# Altium schematic symbol library Res&Caps.SchLib: 97 symbols
Pins are listed as number, name and electrical type; pins without a type are passive.

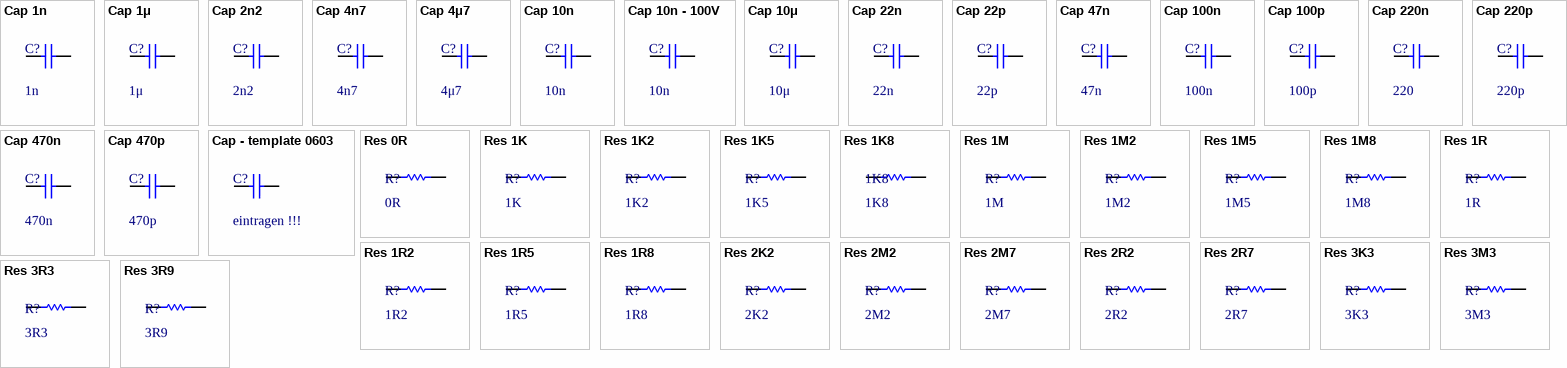
[diagram p0: symbols Cap 1n to Res 3R9]

## Cap 1n
designator C?, comment 1n
Keramikvielschichtkondensator, SMD, Baureihe MC, ± 10%; Manufacturer: TDK; Voltage Rating: 50V; OC_MOUSER: CGA3E2X7R1H102K080AA; Value: 1n; PackageReference: 0603; Tolerance: ± 10%
footprint CAPC0603(1608)55_N (Chip Capacitor, Body 1.6x0.8mm, Height 0.55mm, IPC Medium Density)
pins: 1, 2
1 alternate drawing of the same symbol

## Cap 1μ
designator C?, comment 1μ
Keramikvielschichtkondensator, SMD, Baureihe MC, ± 10%; Manufacturer: TDK; Voltage Rating: 50V; OC_MOUSER: CGA3E3X5R1H105K080AB; Value: 1μ; PackageReference: 0603; Tolerance: ± 10%
footprint CAPC0603(1608)55_N (Chip Capacitor, Body 1.6x0.8mm, Height 0.55mm, IPC Medium Density)
pins: 1, 2
1 alternate drawing of the same symbol

## Cap 2n2
designator C?, comment 2n2
Keramikvielschichtkondensator, SMD, Baureihe MC, ± 5%; Manufacturer: TDK; Voltage Rating: 50V; OC_MOUSER: CGA3E2C0G1H222J080AA; Value: 2n2; PackageReference: 0603; Tolerance: ± 5%
footprint CAPC0603(1608)55_N (Chip Capacitor, Body 1.6x0.8mm, Height 0.55mm, IPC Medium Density)
pins: 1, 2
1 alternate drawing of the same symbol

## Cap 4n7
designator C?, comment 4n7
Keramikvielschichtkondensator, SMD, Baureihe MC, ± 10%; Manufacturer: TDK; Voltage Rating: 50V; OC_MOUSER: CGA3E2X7R1H472K080AA; Value: 4n7; PackageReference: 0603; Tolerance: ± 10%
footprint CAPC0603(1608)55_N (Chip Capacitor, Body 1.6x0.8mm, Height 0.55mm, IPC Medium Density)
pins: 1, 2
1 alternate drawing of the same symbol

## Cap 4μ7
designator C?, comment 4μ7
Keramikvielschichtkondensator, SMD, Baureihe MC, ± 10%; Manufacturer: TDK; Voltage Rating: 6.3V; OC_MOUSER: CGA3E1X5R0J475K080AC; Value: 4μ7; PackageReference: 0603; Tolerance: ± 10%
footprint CAPC0603(1608)55_N (Chip Capacitor, Body 1.6x0.8mm, Height 0.55mm, IPC Medium Density)
pins: 1, 2
1 alternate drawing of the same symbol

## Cap 10n
designator C?, comment 10n
Keramikvielschichtkondensator, SMD, Baureihe MC, ± 10%; Manufacturer: TDK; Voltage Rating: 50V; OC_MOUSER: CGA3E2X7R1H103K080AA; Value: 10n; PackageReference: 0603; Tolerance: ± 10%
footprint CAPC0603(1608)55_N (Chip Capacitor, Body 1.6x0.8mm, Height 0.55mm, IPC Medium Density)
pins: 1, 2
1 alternate drawing of the same symbol

## Cap 10n - 100V
designator C?, comment 10n
Keramikvielschichtkondensator, SMD, Baureihe MC, ± 10%; Manufacturer: TDK; Voltage Rating: 100V; OC_MOUSER: CGA3E2X7R2A103K080AA; Value: 10n; PackageReference: 0603; Tolerance: ± 10%
footprint CAPC0603(1608)55_N (Chip Capacitor, Body 1.6x0.8mm, Height 0.55mm, IPC Medium Density)
pins: 1, 2
1 alternate drawing of the same symbol

## Cap 10μ
designator C?, comment 10μ
Keramikvielschichtkondensator, SMD, Baureihe MC, ± 10%; Manufacturer: TDK; Voltage Rating: 6.3V; OC_MOUSER: C1608X5R0J106K080AB; Value: 10μ; PackageReference: 0603; Tolerance: ± 10%
footprint CAPC0603(1608)55_N (Chip Capacitor, Body 1.6x0.8mm, Height 0.55mm, IPC Medium Density)
pins: 1, 2
1 alternate drawing of the same symbol

## Cap 22n
designator C?, comment 22n
Keramikvielschichtkondensator, SMD, Baureihe MC, ± 10%; Manufacturer: TDK; Voltage Rating: 50V; OC_MOUSER: CGA3E2X7R1H223K080AA; Value: 22n; PackageReference: 0603; Tolerance: ± 10%
footprint CAPC0603(1608)55_N (Chip Capacitor, Body 1.6x0.8mm, Height 0.55mm, IPC Medium Density)
pins: 1, 2
1 alternate drawing of the same symbol

## Cap 22p
designator C?, comment 22p
Keramikvielschichtkondensator, SMD, Baureihe MC, ± 5%; Manufacturer: TDK; Voltage Rating: 50V; OC_MOUSER: CGA3E2C0G1H220J080AA; Value: 22p; PackageReference: 0603; Tolerance: ± 5%
footprint CAPC0603(1608)55_N (Chip Capacitor, Body 1.6x0.8mm, Height 0.55mm, IPC Medium Density)
pins: 1, 2
1 alternate drawing of the same symbol

## Cap 47n
designator C?, comment 47n
Keramikvielschichtkondensator, SMD, Baureihe MC, ± 10%; Manufacturer: TDK; Voltage Rating: 50V; OC_MOUSER: CGA3E2X7R1H473K080AA; Value: 47n; PackageReference: 0603; Tolerance: ± 10%
footprint CAPC0603(1608)55_N (Chip Capacitor, Body 1.6x0.8mm, Height 0.55mm, IPC Medium Density)
pins: 1, 2
1 alternate drawing of the same symbol

## Cap 100n
designator C?, comment 100n
Keramikvielschichtkondensator, SMD, Baureihe MC, ± 10%; Manufacturer: TDK; Voltage Rating: 50V; OC_MOUSER: CGA3E2X7R1H104K080AA; Value: 100n; PackageReference: 0603; Tolerance: ± 10%
footprint CAPC0603(1608)55_N (Chip Capacitor, Body 1.6x0.8mm, Height 0.55mm, IPC Medium Density)
pins: 1, 2
1 alternate drawing of the same symbol

## Cap 100p
designator C?, comment 100p
Keramikvielschichtkondensator, SMD, Baureihe MC, ± 5%; Manufacturer: TDK; Voltage Rating: 50V; OC_MOUSER: CGA3E2C0G1H101J080AE; Value: 100p; PackageReference: 0603; Tolerance: ± 5%
footprint CAPC0603(1608)55_N (Chip Capacitor, Body 1.6x0.8mm, Height 0.55mm, IPC Medium Density)
pins: 1, 2
1 alternate drawing of the same symbol

## Cap 220n
designator C?, comment 220
Keramikvielschichtkondensator, SMD, Baureihe MC, ± 10%; Manufacturer: TDK; Voltage Rating: 50V; OC_MOUSER: CGA3E3X7R1H224K080AE; Value: 220; PackageReference: 0603; Tolerance: ± 10%
footprint CAPC0603(1608)55_N (Chip Capacitor, Body 1.6x0.8mm, Height 0.55mm, IPC Medium Density)
pins: 1, 2
1 alternate drawing of the same symbol

## Cap 220p
designator C?, comment 220p
Keramikvielschichtkondensator, SMD, Baureihe MC, ± 5%; Manufacturer: TDK; Voltage Rating: 50V; OC_MOUSER: CGA3E2C0G1H221J080AA; Value: 220p; PackageReference: 0603; Tolerance: ± 5%
footprint CAPC0603(1608)55_N (Chip Capacitor, Body 1.6x0.8mm, Height 0.55mm, IPC Medium Density)
pins: 1, 2
1 alternate drawing of the same symbol

## Cap 470n
designator C?, comment 470n
Keramikvielschichtkondensator, SMD, Baureihe MC, ± 10%; Manufacturer: TDK; Voltage Rating: 50V; OC_MOUSER: CGA3E3X7R1H474K080AB; Value: 470n; PackageReference: 0603; Tolerance: ± 10%
footprint CAPC0603(1608)55_N (Chip Capacitor, Body 1.6x0.8mm, Height 0.55mm, IPC Medium Density)
pins: 1, 2
1 alternate drawing of the same symbol

## Cap 470p
designator C?, comment 470p
Keramikvielschichtkondensator, SMD, Baureihe MC, ± 5%; Manufacturer: TDK; Voltage Rating: 50V; OC_MOUSER: CGA3E2C0G1H471J080AA; Value: 470p; PackageReference: 0603; Tolerance: ± 5%
footprint CAPC0603(1608)55_N (Chip Capacitor, Body 1.6x0.8mm, Height 0.55mm, IPC Medium Density)
pins: 1, 2
1 alternate drawing of the same symbol

## Cap - template 0603
designator C?, comment eintragen !!!
Keramikvielschichtkondensator, SMD, Baureihe MC, ± 10%; Manufacturer: eintragen !!!; OC_MOUSER: eintragen !!!; Value: eintragen !!!; PackageReference: 0603; Voltage Rating: eintragen !!!; Tolerance: ± eintragen !!!
footprint CAPC0603(1608)55_N (Chip Capacitor, Body 1.6x0.8mm, Height 0.55mm, IPC Medium Density)
pins: 1, 2
1 alternate drawing of the same symbol

## Res 0R
designator R?, comment 0R
Chipwiderstand, SMD, Baureihe MC, 1%; Manufacturer: Multicomp; Power: 100mW; PackageReference: 0603; Value: 0R; OC_FARNELL: 9331662
footprint RESC0603(1608)_N (Chip Resistor, Body 1.6x0.8mm, IPC Medium Density)
pins: 1, 2
1 alternate drawing of the same symbol

## Res 1K
designator R?, comment 1K
Chipwiderstand, SMD, Baureihe MC, 1%; Manufacturer: Multicomp; Power: 100mW; PackageReference: 0603; Value: 1K; OC_FARNELL: 9330380
footprint RESC0603(1608)_N (Chip Resistor, Body 1.6x0.8mm, IPC Medium Density)
pins: 1, 2
1 alternate drawing of the same symbol

## Res 1K2
designator R?, comment 1K2
Chipwiderstand, SMD, Baureihe MC, 1%; Manufacturer: Multicomp; Power: 100mW; PackageReference: 0603; Value: 1K2; OC_FARNELL: 9330500
footprint RESC0603(1608)_N (Chip Resistor, Body 1.6x0.8mm, IPC Medium Density)
pins: 1, 2
1 alternate drawing of the same symbol

## Res 1K5
designator R?, comment 1K5
Chipwiderstand, SMD, Baureihe MC, 1%; Manufacturer: Multicomp; Power: 100mW; PackageReference: 0603; Value: 1K5; OC_FARNELL: 9330607
footprint RESC0603(1608)_N (Chip Resistor, Body 1.6x0.8mm, IPC Medium Density)
pins: 1, 2
1 alternate drawing of the same symbol

## Res 1K8
designator 1K8, comment 1K8
Chipwiderstand, SMD, Baureihe MC, 1%; Manufacturer: Multicomp; Power: 100mW; PackageReference: 0603; Value: 1K8; OC_FARNELL: 9330712
footprint RESC0603(1608)_N (Chip Resistor, Body 1.6x0.8mm, IPC Medium Density)
pins: 1, 2
1 alternate drawing of the same symbol

## Res 1M
designator R?, comment 1M
Chipwiderstand, SMD, Baureihe MC, 1%; Manufacturer: Multicomp; Power: 100mW; PackageReference: 0603; Value: 1M; OC_FARNELL: 2447285
footprint RESC0603(1608)_N (Chip Resistor, Body 1.6x0.8mm, IPC Medium Density)
pins: 1, 2
1 alternate drawing of the same symbol

## Res 1M2
designator R?, comment 1M2
Chipwiderstand, SMD, Baureihe MC, 1%; Manufacturer: Multicomp; Power: 100mW; PackageReference: 0603; Value: 1M2; OC_FARNELL: 2447286
footprint RESC0603(1608)_N (Chip Resistor, Body 1.6x0.8mm, IPC Medium Density)
pins: 1, 2
1 alternate drawing of the same symbol

## Res 1M5
designator R?, comment 1M5
Chipwiderstand, SMD, Baureihe MC, 1%; Manufacturer: Multicomp; Power: 100mW; PackageReference: 0603; Value: 1M5; OC_FARNELL: 2447287
footprint RESC0603(1608)_N (Chip Resistor, Body 1.6x0.8mm, IPC Medium Density)
pins: 1, 2
1 alternate drawing of the same symbol

## Res 1M8
designator R?, comment 1M8
Chipwiderstand, SMD, Baureihe MC, 1%; Manufacturer: Multicomp; Power: 100mW; PackageReference: 0603; Value: 1M8; OC_FARNELL: 2447288
footprint RESC0603(1608)_N (Chip Resistor, Body 1.6x0.8mm, IPC Medium Density)
pins: 1, 2
1 alternate drawing of the same symbol

## Res 1R
designator R?, comment 1R
Chipwiderstand, SMD, Baureihe MC, 1%; Manufacturer: Multicomp; Power: 100mW; PackageReference: 0603; Value: 1R; OC_FARNELL: 2447289
footprint RESC0603(1608)_N (Chip Resistor, Body 1.6x0.8mm, IPC Medium Density)
pins: 1, 2
1 alternate drawing of the same symbol

## Res 1R2
designator R?, comment 1R2
Chipwiderstand, SMD, Baureihe MC, 1%; Manufacturer: Multicomp; Power: 100mW; PackageReference: 0603; Value: 1R2; OC_FARNELL: 2694673
footprint RESC0603(1608)_N (Chip Resistor, Body 1.6x0.8mm, IPC Medium Density)
pins: 1, 2
1 alternate drawing of the same symbol

## Res 1R5
designator R?, comment 1R5
Chipwiderstand, SMD, Baureihe MC, 1%; Manufacturer: Multicomp; Power: 100mW; PackageReference: 0603; Value: 1R5; OC_FARNELL: 2447290
footprint RESC0603(1608)_N (Chip Resistor, Body 1.6x0.8mm, IPC Medium Density)
pins: 1, 2
1 alternate drawing of the same symbol

## Res 1R8
designator R?, comment 1R8
Chipwiderstand, SMD, Baureihe MC, 1%; Manufacturer: Multicomp; Power: 100mW; PackageReference: 0603; Value: 1R8; OC_FARNELL: 2694674
footprint RESC0603(1608)_N (Chip Resistor, Body 1.6x0.8mm, IPC Medium Density)
pins: 1, 2
1 alternate drawing of the same symbol

## Res 2K2
designator R?, comment 2K2
Chipwiderstand, SMD, Baureihe MC, 1%; Manufacturer: Multicomp; Power: 100mW; PackageReference: 0603; Value: 2K2; OC_FARNELL: 9330810
footprint RESC0603(1608)_N (Chip Resistor, Body 1.6x0.8mm, IPC Medium Density)
pins: 1, 2
1 alternate drawing of the same symbol

## Res 2M2
designator R?, comment 2M2
Chipwiderstand, SMD, Baureihe MC, 1%; Manufacturer: Multicomp; Power: 100mW; PackageReference: 0603; Value: 2M2; OC_FARNELL: 2447326
footprint RESC0603(1608)_N (Chip Resistor, Body 1.6x0.8mm, IPC Medium Density)
pins: 1, 2
1 alternate drawing of the same symbol

## Res 2M7
designator R?, comment 2M7
Chipwiderstand, SMD, Baureihe MC, 1%; Manufacturer: Multicomp; Power: 100mW; PackageReference: 0603; Value: 2M7; OC_FARNELL: 1458773
footprint RESC0603(1608)_N (Chip Resistor, Body 1.6x0.8mm, IPC Medium Density)
pins: 1, 2
1 alternate drawing of the same symbol

## Res 2R2
designator R?, comment 2R2
Chipwiderstand, SMD, Baureihe MC, 1%; Manufacturer: Multicomp; Power: 100mW; PackageReference: 0603; Value: 2R2; OC_FARNELL: 2447328
footprint RESC0603(1608)_N (Chip Resistor, Body 1.6x0.8mm, IPC Medium Density)
pins: 1, 2
1 alternate drawing of the same symbol

## Res 2R7
designator R?, comment 2R7
Chipwiderstand, SMD, Baureihe MC, 1%; Manufacturer: Multicomp; Power: 100mW; PackageReference: 0603; Value: 2R7; OC_FARNELL: 2447329
footprint RESC0603(1608)_N (Chip Resistor, Body 1.6x0.8mm, IPC Medium Density)
pins: 1, 2
1 alternate drawing of the same symbol

## Res 3K3
designator R?, comment 3K3
Chipwiderstand, SMD, Baureihe MC, 1%; Manufacturer: Multicomp; Power: 100mW; PackageReference: 0603; Value: 3K3; OC_FARNELL: 9331026
footprint RESC0603(1608)_N (Chip Resistor, Body 1.6x0.8mm, IPC Medium Density)
pins: 1, 2
1 alternate drawing of the same symbol

## Res 3M3
designator R?, comment 3M3
Chipwiderstand, SMD, Baureihe MC, 1%; Manufacturer: Multicomp; Power: 100mW; PackageReference: 0603; Value: 3M3; OC_FARNELL: 2447364
footprint RESC0603(1608)_N (Chip Resistor, Body 1.6x0.8mm, IPC Medium Density)
pins: 1, 2
1 alternate drawing of the same symbol

## Res 3R3
designator R?, comment 3R3
Chipwiderstand, SMD, Baureihe MC, 1%; Manufacturer: Multicomp; Power: 100mW; PackageReference: 0603; Value: 3R3; OC_FARNELL: 2447365
footprint RESC0603(1608)_N (Chip Resistor, Body 1.6x0.8mm, IPC Medium Density)
pins: 1, 2
1 alternate drawing of the same symbol

## Res 3R9
designator R?, comment 3R9
Chipwiderstand, SMD, Baureihe MC, 1%; Manufacturer: Multicomp; Power: 100mW; PackageReference: 0603; Value: 3R9; OC_FARNELL: 9238190
footprint RESC0603(1608)_N (Chip Resistor, Body 1.6x0.8mm, IPC Medium Density)
pins: 1, 2
1 alternate drawing of the same symbol

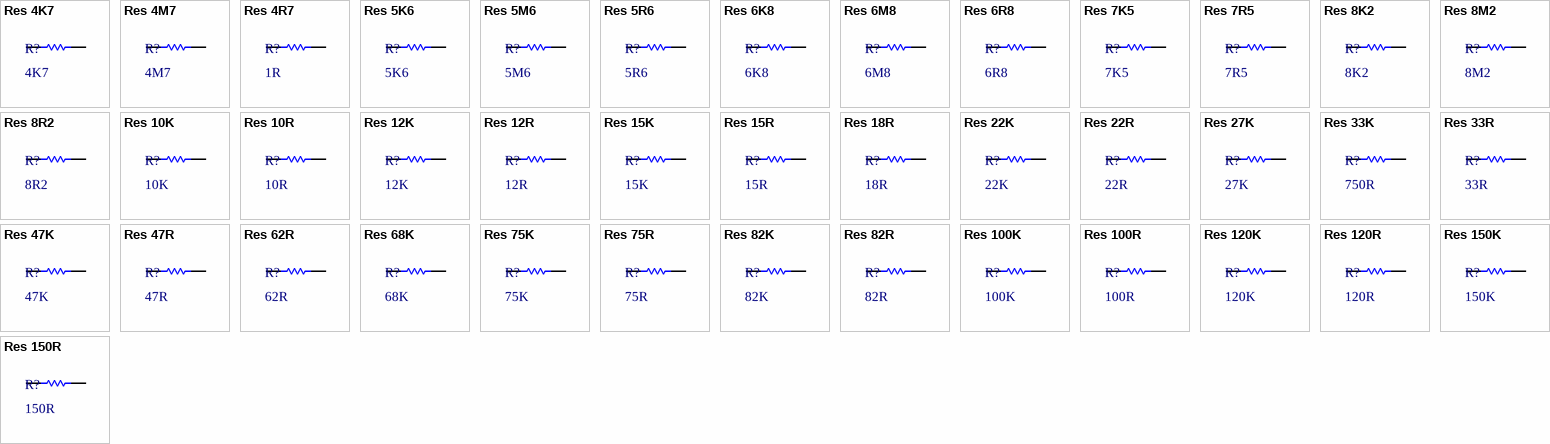
[diagram p1: symbols Res 4K7 to Res 150R]

## Res 4K7
designator R?, comment 4K7
Chipwiderstand, SMD, Baureihe MC, 1%; Manufacturer: Multicomp; Power: 100mW; PackageReference: 0603; Value: 4K7; OC_FARNELL: 9332154
footprint RESC0603(1608)_N (Chip Resistor, Body 1.6x0.8mm, IPC Medium Density)
pins: 1, 2
1 alternate drawing of the same symbol

## Res 4M7
designator R?, comment 4M7
Chipwiderstand, SMD, Baureihe MC, 1%; Manufacturer: Multicomp; Power: 100mW; PackageReference: 0603; Value: 4M7; OC_FARNELL: 2447389
footprint RESC0603(1608)_N (Chip Resistor, Body 1.6x0.8mm, IPC Medium Density)
pins: 1, 2
1 alternate drawing of the same symbol

## Res 4R7
designator R?, comment 1R
Chipwiderstand, SMD, Baureihe MC, 1%; Manufacturer: Multicomp; Power: 100mW; PackageReference: 0603; Value: 1R; OC_FARNELL: 2447390
footprint RESC0603(1608)_N (Chip Resistor, Body 1.6x0.8mm, IPC Medium Density)
pins: 1, 2
1 alternate drawing of the same symbol

## Res 5K6
designator R?, comment 5K6
Chipwiderstand, SMD, Baureihe MC, 1%; Manufacturer: Multicomp; Power: 100mW; PackageReference: 0603; Value: 5K6; OC_FARNELL: 9332219
footprint RESC0603(1608)_N (Chip Resistor, Body 1.6x0.8mm, IPC Medium Density)
pins: 1, 2
1 alternate drawing of the same symbol

## Res 5M6
designator R?, comment 5M6
Chipwiderstand, SMD, Baureihe MC, 1%; Manufacturer: Multicomp; Power: 100mW; PackageReference: 0603; Value: 5M6; OC_FARNELL: 2447408
footprint RESC0603(1608)_N (Chip Resistor, Body 1.6x0.8mm, IPC Medium Density)
pins: 1, 2
1 alternate drawing of the same symbol

## Res 5R6
designator R?, comment 5R6
Chipwiderstand, SMD, Baureihe MC, 1%; Manufacturer: Multicomp; Power: 100mW; PackageReference: 0603; Value: 5R6; OC_FARNELL: 2447410
footprint RESC0603(1608)_N (Chip Resistor, Body 1.6x0.8mm, IPC Medium Density)
pins: 1, 2
1 alternate drawing of the same symbol

## Res 6K8
designator R?, comment 6K8
Chipwiderstand, SMD, Baureihe MC, 1%; Manufacturer: Multicomp; Power: 100mW; PackageReference: 0603; Value: 6K8; OC_FARNELL: 2447427
footprint RESC0603(1608)_N (Chip Resistor, Body 1.6x0.8mm, IPC Medium Density)
pins: 1, 2
1 alternate drawing of the same symbol

## Res 6M8
designator R?, comment 6M8
Chipwiderstand, SMD, Baureihe MC, 1%; Manufacturer: Multicomp; Power: 100mW; PackageReference: 0603; Value: 6M8; OC_FARNELL: 2073214
footprint RESC0603(1608)_N (Chip Resistor, Body 1.6x0.8mm, IPC Medium Density)
pins: 1, 2
1 alternate drawing of the same symbol

## Res 6R8
designator R?, comment 6R8
Chipwiderstand, SMD, Baureihe MC, 1%; Manufacturer: Multicomp; Power: 100mW; PackageReference: 0603; Value: 6R8; OC_FARNELL: 2447429
footprint RESC0603(1608)_N (Chip Resistor, Body 1.6x0.8mm, IPC Medium Density)
pins: 1, 2
1 alternate drawing of the same symbol

## Res 7K5
designator R?, comment 7K5
Chipwiderstand, SMD, Baureihe MC, 1%; Manufacturer: Multicomp; Power: 100mW; PackageReference: 0603; Value: 7K5; OC_FARNELL: 2447435
footprint RESC0603(1608)_N (Chip Resistor, Body 1.6x0.8mm, IPC Medium Density)
pins: 1, 2
1 alternate drawing of the same symbol

## Res 7R5
designator R?, comment 7R5
Chipwiderstand, SMD, Baureihe MC, 1%; Manufacturer: Multicomp; Power: 100mW; PackageReference: 0603; Value: 7R5; OC_FARNELL: 2694678
footprint RESC0603(1608)_N (Chip Resistor, Body 1.6x0.8mm, IPC Medium Density)
pins: 1, 2
1 alternate drawing of the same symbol

## Res 8K2
designator R?, comment 8K2
Chipwiderstand, SMD, Baureihe MC, 1%; Manufacturer: Multicomp; Power: 100mW; PackageReference: 0603; Value: 8K2; OC_FARNELL: 2447442
footprint RESC0603(1608)_N (Chip Resistor, Body 1.6x0.8mm, IPC Medium Density)
pins: 1, 2
1 alternate drawing of the same symbol

## Res 8M2
designator R?, comment 8M2
Chipwiderstand, SMD, Baureihe MC, 1%; Manufacturer: Multicomp; Power: 100mW; PackageReference: 0603; Value: 8M2; OC_FARNELL: 2073276
footprint RESC0603(1608)_N (Chip Resistor, Body 1.6x0.8mm, IPC Medium Density)
pins: 1, 2
1 alternate drawing of the same symbol

## Res 8R2
designator R?, comment 8R2
Chipwiderstand, SMD, Baureihe MC, 1%; Manufacturer: Multicomp; Power: 100mW; PackageReference: 0603; Value: 8R2; OC_FARNELL: 2694679
footprint RESC0603(1608)_N (Chip Resistor, Body 1.6x0.8mm, IPC Medium Density)
pins: 1, 2
1 alternate drawing of the same symbol

## Res 10K
designator R?, comment 10K
Chipwiderstand, SMD, Baureihe MC, 1%; Manufacturer: Multicomp; Power: 100mW; PackageReference: 0603; Value: 10K; OC_FARNELL: 9330399
footprint RESC0603(1608)_N (Chip Resistor, Body 1.6x0.8mm, IPC Medium Density)
pins: 1, 2
1 alternate drawing of the same symbol

## Res 10R
designator R?, comment 10R
Chipwiderstand, SMD, Baureihe MC, 1%; Manufacturer: Multicomp; Power: 100mW; PackageReference: 0603; Value: 10R; OC_FARNELL: 2446550
footprint RESC0603(1608)_N (Chip Resistor, Body 1.6x0.8mm, IPC Medium Density)
pins: 1, 2
1 alternate drawing of the same symbol

## Res 12K
designator R?, comment 12K
Chipwiderstand, SMD, Baureihe MC, 1%; Manufacturer: Multicomp; Power: 100mW; PackageReference: 0603; Value: 12K; OC_FARNELL: 9330518
footprint RESC0603(1608)_N (Chip Resistor, Body 1.6x0.8mm, IPC Medium Density)
pins: 1, 2
1 alternate drawing of the same symbol

## Res 12R
designator R?, comment 12R
Chipwiderstand, SMD, Baureihe MC, 1%; Manufacturer: Multicomp; Power: 100mW; PackageReference: 0603; Value: 12R; OC_FARNELL: 2447246
footprint RESC0603(1608)_N (Chip Resistor, Body 1.6x0.8mm, IPC Medium Density)
pins: 1, 2
1 alternate drawing of the same symbol

## Res 15K
designator R?, comment 15K
Chipwiderstand, SMD, Baureihe MC, 1%; Manufacturer: Multicomp; Power: 100mW; PackageReference: 0603; Value: 15K; OC_FARNELL: 2447256
footprint RESC0603(1608)_N (Chip Resistor, Body 1.6x0.8mm, IPC Medium Density)
pins: 1, 2
1 alternate drawing of the same symbol

## Res 15R
designator R?, comment 15R
Chipwiderstand, SMD, Baureihe MC, 1%; Manufacturer: Multicomp; Power: 100mW; PackageReference: 0603; Value: 15R; OC_FARNELL: 2447258
footprint RESC0603(1608)_N (Chip Resistor, Body 1.6x0.8mm, IPC Medium Density)
pins: 1, 2
1 alternate drawing of the same symbol

## Res 18R
designator R?, comment 18R
Chipwiderstand, SMD, Baureihe MC, 1%; Manufacturer: Multicomp; Power: 100mW; PackageReference: 0603; Value: 18R; OC_FARNELL: 2447270
footprint RESC0603(1608)_N (Chip Resistor, Body 1.6x0.8mm, IPC Medium Density)
pins: 1, 2
1 alternate drawing of the same symbol

## Res 22K
designator R?, comment 22K
Chipwiderstand, SMD, Baureihe MC, 1%; Manufacturer: Multicomp; Power: 100mW; PackageReference: 0603; Value: 22K; OC_FARNELL: 2447299
footprint RESC0603(1608)_N (Chip Resistor, Body 1.6x0.8mm, IPC Medium Density)
pins: 1, 2
1 alternate drawing of the same symbol

## Res 22R
designator R?, comment 22R
Chipwiderstand, SMD, Baureihe MC, 1%; Manufacturer: Multicomp; Power: 100mW; PackageReference: 0603; Value: 22R; OC_FARNELL: 9331891
footprint RESC0603(1608)_N (Chip Resistor, Body 1.6x0.8mm, IPC Medium Density)
pins: 1, 2
1 alternate drawing of the same symbol

## Res 27K
designator R?, comment 27K
Chipwiderstand, SMD, Baureihe MC, 1%; Manufacturer: Multicomp; Power: 100mW; PackageReference: 0603; Value: 27K; OC_FARNELL: 2447315
footprint RESC0603(1608)_N (Chip Resistor, Body 1.6x0.8mm, IPC Medium Density)
pins: 1, 2
1 alternate drawing of the same symbol

## Res 33K
designator R?, comment 750R
Chipwiderstand, SMD, Baureihe MC, 1%; Manufacturer: Multicomp; Power: 100mW; PackageReference: 0603; Value: 750R; OC_FARNELL: 9331506
footprint RESC0603(1608)_N (Chip Resistor, Body 1.6x0.8mm, IPC Medium Density)
pins: 1, 2
1 alternate drawing of the same symbol

## Res 33R
designator R?, comment 33R
Chipwiderstand, SMD, Baureihe MC, 1%; Manufacturer: Multicomp; Power: 100mW; PackageReference: 0603; Value: 33R; OC_FARNELL: 9331050
footprint RESC0603(1608)_N (Chip Resistor, Body 1.6x0.8mm, IPC Medium Density)
pins: 1, 2
1 alternate drawing of the same symbol

## Res 47K
designator R?, comment 47K
Chipwiderstand, SMD, Baureihe MC, 1%; Manufacturer: Multicomp; Power: 100mW; PackageReference: 0603; Value: 47K; OC_FARNELL: 2447376
footprint RESC0603(1608)_N (Chip Resistor, Body 1.6x0.8mm, IPC Medium Density)
pins: 1, 2
1 alternate drawing of the same symbol

## Res 47R
designator R?, comment 47R
Chipwiderstand, SMD, Baureihe MC, 1%; Manufacturer: Multicomp; Power: 100mW; PackageReference: 0603; Value: 47R; OC_FARNELL: 1576259
footprint RESC0603(1608)_N (Chip Resistor, Body 1.6x0.8mm, IPC Medium Density)
pins: 1, 2
1 alternate drawing of the same symbol

## Res 62R
designator R?, comment 62R
Chipwiderstand, SMD, Baureihe MC, 1%; Manufacturer: Multicomp; Power: 100mW; PackageReference: 0603; Value: 62R; OC_FARNELL: 9331433
footprint RESC0603(1608)_N (Chip Resistor, Body 1.6x0.8mm, IPC Medium Density)
pins: 1, 2
1 alternate drawing of the same symbol

## Res 68K
designator R?, comment 68K
Chipwiderstand, SMD, Baureihe MC, 1%; Manufacturer: Multicomp; Power: 100mW; PackageReference: 0603; Value: 68K; OC_FARNELL: 2447420
footprint RESC0603(1608)_N (Chip Resistor, Body 1.6x0.8mm, IPC Medium Density)
pins: 1, 2
1 alternate drawing of the same symbol

## Res 75K
designator R?, comment 75K
Chipwiderstand, SMD, Baureihe MC, 1%; Manufacturer: Multicomp; Power: 100mW; PackageReference: 0603; Value: 75K; OC_FARNELL: 2447433
footprint RESC0603(1608)_N (Chip Resistor, Body 1.6x0.8mm, IPC Medium Density)
pins: 1, 2
1 alternate drawing of the same symbol

## Res 75R
designator R?, comment 75R
Chipwiderstand, SMD, Baureihe MC, 1%; Manufacturer: Multicomp; Power: 100mW; PackageReference: 0603; Value: 75R; OC_FARNELL: 2447434
footprint RESC0603(1608)_N (Chip Resistor, Body 1.6x0.8mm, IPC Medium Density)
pins: 1, 2
1 alternate drawing of the same symbol

## Res 82K
designator R?, comment 82K
Chipwiderstand, SMD, Baureihe MC, 1%; Manufacturer: Multicomp; Power: 100mW; PackageReference: 0603; Value: 82K; OC_FARNELL: 2447438
footprint RESC0603(1608)_N (Chip Resistor, Body 1.6x0.8mm, IPC Medium Density)
pins: 1, 2
1 alternate drawing of the same symbol

## Res 82R
designator R?, comment 82R
Chipwiderstand, SMD, Baureihe MC, 1%; Manufacturer: Multicomp; Power: 100mW; PackageReference: 0603; Value: 82R; OC_FARNELL: 2447439
footprint RESC0603(1608)_N (Chip Resistor, Body 1.6x0.8mm, IPC Medium Density)
pins: 1, 2
1 alternate drawing of the same symbol

## Res 100K
designator R?, comment 100K
Chipwiderstand, SMD, Baureihe MC, 1%; Manufacturer: Multicomp; Power: 100mW; PackageReference: 0603; Value: 100K; OC_FARNELL: 9330402
footprint RESC0603(1608)_N (Chip Resistor, Body 1.6x0.8mm, IPC Medium Density)
pins: 1, 2
1 alternate drawing of the same symbol

## Res 100R
designator R?, comment 100R
Chipwiderstand, SMD, Baureihe MC, 1%; Manufacturer: Multicomp; Power: 100mW; PackageReference: 0603; Value: 100R; OC_FARNELL: 2447227
footprint RESC0603(1608)_N (Chip Resistor, Body 1.6x0.8mm, IPC Medium Density)
pins: 1, 2
1 alternate drawing of the same symbol

## Res 120K
designator R?, comment 120K
Chipwiderstand, SMD, Baureihe MC, 1%; Manufacturer: Multicomp; Power: 100mW; PackageReference: 0603; Value: 120K; OC_FARNELL: 2447239
footprint RESC0603(1608)_N (Chip Resistor, Body 1.6x0.8mm, IPC Medium Density)
pins: 1, 2
1 alternate drawing of the same symbol

## Res 120R
designator R?, comment 120R
Chipwiderstand, SMD, Baureihe MC, 1%; Manufacturer: Multicomp; Power: 100mW; PackageReference: 0603; Value: 120R; OC_FARNELL: 2447240
footprint RESC0603(1608)_N (Chip Resistor, Body 1.6x0.8mm, IPC Medium Density)
pins: 1, 2
1 alternate drawing of the same symbol

## Res 150K
designator R?, comment 150K
Chipwiderstand, SMD, Baureihe MC, 1%; Manufacturer: Multicomp; Power: 100mW; PackageReference: 0603; Value: 150K; OC_FARNELL: 9331824
footprint RESC0603(1608)_N (Chip Resistor, Body 1.6x0.8mm, IPC Medium Density)
pins: 1, 2
1 alternate drawing of the same symbol

## Res 150R
designator R?, comment 150R
Chipwiderstand, SMD, Baureihe MC, 1%; Manufacturer: Multicomp; Power: 100mW; PackageReference: 0603; Value: 150R; OC_FARNELL: 2447255
footprint RESC0603(1608)_N (Chip Resistor, Body 1.6x0.8mm, IPC Medium Density)
pins: 1, 2
1 alternate drawing of the same symbol

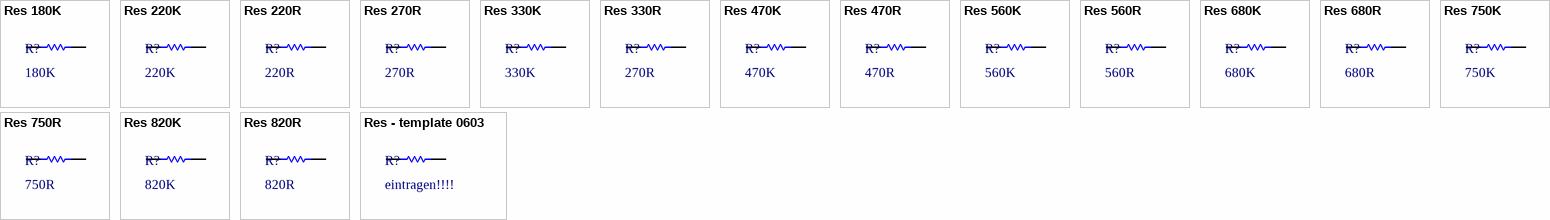
[diagram p2: symbols Res 180K to Res - template 0603]

## Res 180K
designator R?, comment 180K
Chipwiderstand, SMD, Baureihe MC, 1%; Manufacturer: Multicomp; Power: 100mW; PackageReference: 0603; Value: 180K; OC_FARNELL: 9330402
footprint RESC0603(1608)_N (Chip Resistor, Body 1.6x0.8mm, IPC Medium Density)
pins: 1, 2
1 alternate drawing of the same symbol

## Res 220K
designator R?, comment 220K
Chipwiderstand, SMD, Baureihe MC, 1%; Manufacturer: Multicomp; Power: 100mW; PackageReference: 0603; Value: 220K; OC_FARNELL: 9330836
footprint RESC0603(1608)_N (Chip Resistor, Body 1.6x0.8mm, IPC Medium Density)
pins: 1, 2
1 alternate drawing of the same symbol

## Res 220R
designator R?, comment 220R
Chipwiderstand, SMD, Baureihe MC, 1%; Manufacturer: Multicomp; Power: 100mW; PackageReference: 0603; Value: 220R; OC_FARNELL: 9330801
footprint RESC0603(1608)_N (Chip Resistor, Body 1.6x0.8mm, IPC Medium Density)
pins: 1, 2
1 alternate drawing of the same symbol

## Res 270R
designator R?, comment 270R
Chipwiderstand, SMD, Baureihe MC, 1%; Manufacturer: Multicomp; Power: 100mW; PackageReference: 0603; Value: 270R; OC_FARNELL: 9330917
footprint RESC0603(1608)_N (Chip Resistor, Body 1.6x0.8mm, IPC Medium Density)
pins: 1, 2
1 alternate drawing of the same symbol

## Res 330K
designator R?, comment 330K
Chipwiderstand, SMD, Baureihe MC, 1%; Manufacturer: Multicomp; Power: 100mW; PackageReference: 0603; Value: 330K; OC_FARNELL: 2074244
footprint RESC0603(1608)_N (Chip Resistor, Body 1.6x0.8mm, IPC Medium Density)
pins: 1, 2
1 alternate drawing of the same symbol

## Res 330R
designator R?, comment 270R
Chipwiderstand, SMD, Baureihe MC, 1%; Manufacturer: Multicomp; Power: 100mW; PackageReference: 0603; Value: 270R; OC_FARNELL: 2447339
footprint RESC0603(1608)_N (Chip Resistor, Body 1.6x0.8mm, IPC Medium Density)
pins: 1, 2
1 alternate drawing of the same symbol

## Res 470K
designator R?, comment 470K
Chipwiderstand, SMD, Baureihe MC, 1%; Manufacturer: Multicomp; Power: 100mW; PackageReference: 0603; Value: 470K; OC_FARNELL: 9331263
footprint RESC0603(1608)_N (Chip Resistor, Body 1.6x0.8mm, IPC Medium Density)
pins: 1, 2
1 alternate drawing of the same symbol

## Res 470R
designator R?, comment 470R
Chipwiderstand, SMD, Baureihe MC, 1%; Manufacturer: Multicomp; Power: 100mW; PackageReference: 0603; Value: 470R; OC_FARNELL: 9331239
footprint RESC0603(1608)_N (Chip Resistor, Body 1.6x0.8mm, IPC Medium Density)
pins: 1, 2
1 alternate drawing of the same symbol

## Res 560K
designator R?, comment 560K
Chipwiderstand, SMD, Baureihe MC, 1%; Manufacturer: Multicomp; Power: 100mW; PackageReference: 0603; Value: 560K; OC_FARNELL: 2447396
footprint RESC0603(1608)_N (Chip Resistor, Body 1.6x0.8mm, IPC Medium Density)
pins: 1, 2
1 alternate drawing of the same symbol

## Res 560R
designator R?, comment 560R
Chipwiderstand, SMD, Baureihe MC, 1%; Manufacturer: Multicomp; Power: 100mW; PackageReference: 0603; Value: 560R; OC_FARNELL: 9331344
footprint RESC0603(1608)_N (Chip Resistor, Body 1.6x0.8mm, IPC Medium Density)
pins: 1, 2
1 alternate drawing of the same symbol

## Res 680K
designator R?, comment 680K
Chipwiderstand, SMD, Baureihe MC, 1%; Manufacturer: Multicomp; Power: 100mW; PackageReference: 0603; Value: 680K; OC_FARNELL: 2447418
footprint RESC0603(1608)_N (Chip Resistor, Body 1.6x0.8mm, IPC Medium Density)
pins: 1, 2
1 alternate drawing of the same symbol

## Res 680R
designator R?, comment 680R
Chipwiderstand, SMD, Baureihe MC, 1%; Manufacturer: Multicomp; Power: 100mW; PackageReference: 0603; Value: 680R; OC_FARNELL: 9331344
footprint RESC0603(1608)_N (Chip Resistor, Body 1.6x0.8mm, IPC Medium Density)
pins: 1, 2
1 alternate drawing of the same symbol

## Res 750K
designator R?, comment 750K
Chipwiderstand, SMD, Baureihe MC, 1%; Manufacturer: Multicomp; Power: 100mW; PackageReference: 0603; Value: 750K; OC_FARNELL: 2447431
footprint RESC0603(1608)_N (Chip Resistor, Body 1.6x0.8mm, IPC Medium Density)
pins: 1, 2
1 alternate drawing of the same symbol

## Res 750R
designator R?, comment 750R
Chipwiderstand, SMD, Baureihe MC, 1%; Manufacturer: Multicomp; Power: 100mW; PackageReference: 0603; Value: 750R; OC_FARNELL: 9331506
footprint RESC0603(1608)_N (Chip Resistor, Body 1.6x0.8mm, IPC Medium Density)
pins: 1, 2
1 alternate drawing of the same symbol

## Res 820K
designator R?, comment 820K
Chipwiderstand, SMD, Baureihe MC, 1%; Manufacturer: Multicomp; Power: 100mW; PackageReference: 0603; Value: 820K; OC_FARNELL: 2447436
footprint RESC0603(1608)_N (Chip Resistor, Body 1.6x0.8mm, IPC Medium Density)
pins: 1, 2
1 alternate drawing of the same symbol

## Res 820R
designator R?, comment 820R
Chipwiderstand, SMD, Baureihe MC, 1%; Manufacturer: Multicomp; Power: 100mW; PackageReference: 0603; Value: 820R; OC_FARNELL: 2447437
footprint RESC0603(1608)_N (Chip Resistor, Body 1.6x0.8mm, IPC Medium Density)
pins: 1, 2
1 alternate drawing of the same symbol

## Res - template 0603
designator R?, comment eintragen!!!!
Chipwiderstand, SMD, Baureihe MC, 1%; Manufacturer: Multicomp; PackageReference: 0603; Value: eintragen!!!!; OC_FARNELL: eintragen!!!!; Power: eintragen!!!!
footprint RESC0603(1608)_N (Chip Resistor, Body 1.6x0.8mm, IPC Medium Density)
pins: 1, 2
1 alternate drawing of the same symbol